# Altium footprint library PCB - CONNECTOR - SAMTEC IPL1-104-01-L-D-RA-K.PCBLIB: 1 footprints
Each footprint in its own frame and in the unit in brackets; x right, y up, seen from the top. Pads: shape width x height; smd on the part's side, far side on the other; paste and mask are expansions set on the pad; w line width, h text height; cw(c..) or ccw(c..) is an arc to the next point about the centre after c.
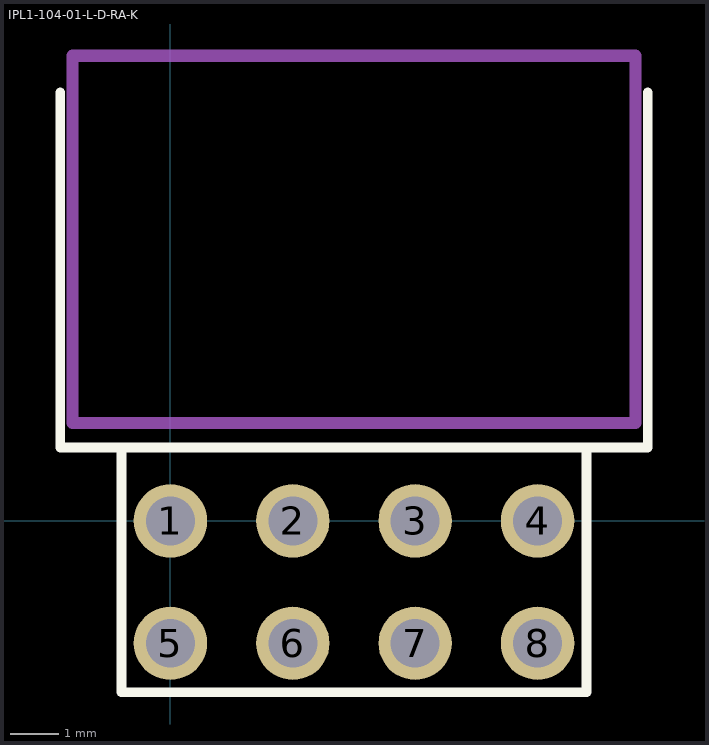
[diagram p0: the footprint, top view; thin cyan lines are the x and y axes]

## IPL1-104-01-L-D-RA-K [mil]
pads (8):
  round 60 hole 40: 1(0,0) 2(100,0) 3(200,0) 4(300,0) 5(0,-100) 6(100,-100) 7(200,-100) 8(300,-100)
Top Overlay:
  lines w8: -90,350 -90,60 390,60 390,350 ; -40,60 -40,-140 340,-140 340,60
M5 Assembly Top:
  lines w10: -80,80 380,80 380,380 -80,380 -80,80
  text ".Designator" at 47.24,125.98 h60
3D body "IPL1-104-01-L-D-RA-K.stp": height 315, standoff -80, extent -79.49,-112.24 380.51,380.26